# Altium footprint library SG__PCB_MiniSat.PcbLib: 12 footprints (part 1 of 2)
Each footprint in its own frame and in the unit in brackets; x right, y up, seen from the top. Pads: shape width x height; smd on the part's side, far side on the other; paste and mask are expansions set on the pad; w line width, h text height; cw(c..) or ccw(c..) is an arc to the next point about the centre after c.
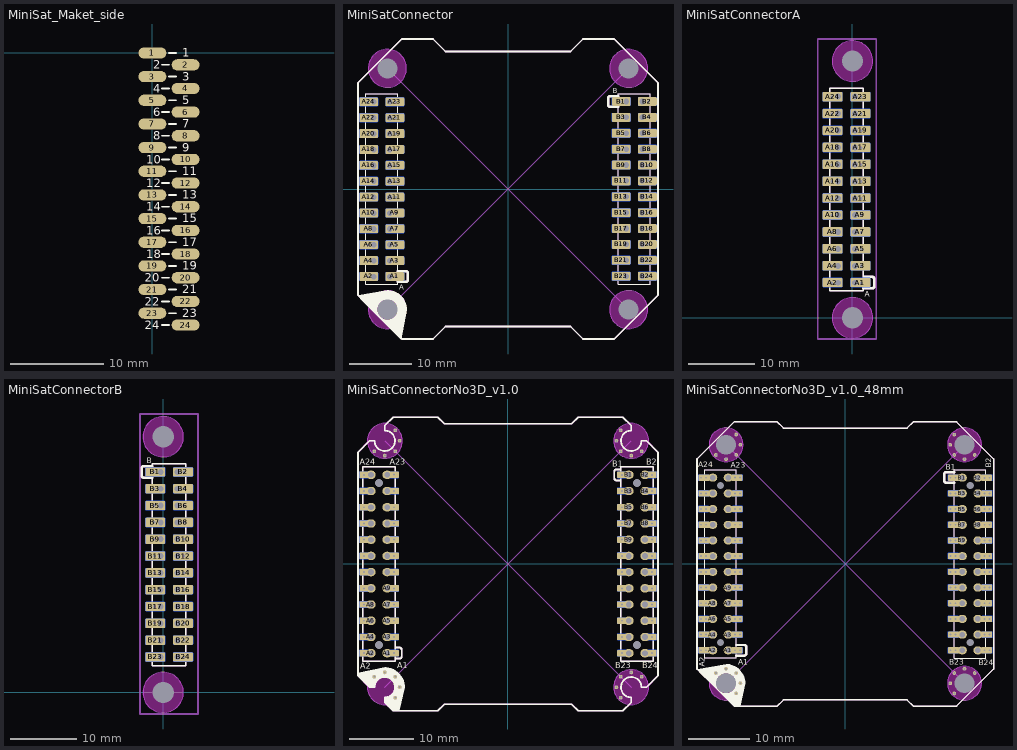
[diagram p0: the footprints below, top view; thin cyan lines are the x and y axes]

## MiniSat_Maket_side [mm]
pads (24):
  oval 3x1.2 smd: 1(0,0) 2(3.56,-1.27) 3(0,-2.54) 4(3.56,-3.81) 5(0,-5.08) 6(3.56,-6.35) 7(0,-7.62) 8(3.56,-8.89) 9(0,-10.16) 10(3.56,-11.43) 11(0,-12.7) 12(3.56,-13.97) 13(0,-15.24) 14(3.56,-16.51) 15(0,-17.78) 16(3.56,-19.05) 17(0,-20.32) 18(3.56,-21.59) 19(0,-22.86) 20(3.56,-24.13) 21(0,-25.4) 22(3.56,-26.67) 23(0,-27.94) 24(3.56,-29.21)
Top Overlay:
  lines w0.2: 1.013,-29.21 1.783,-29.21 ; 1.013,-26.67 1.783,-26.67 ; 1.013,-24.13 1.783,-24.13 ; 1.013,-21.59 1.783,-21.59 ; 1.013,-19.05 1.783,-19.05 ; 1.013,-16.51 1.783,-16.51 ; 1.013,-13.97 1.783,-13.97 ; 1.013,-11.43 1.783,-11.43 ; 1.013,-8.89 1.783,-8.89 ; 1.013,-6.35 1.783,-6.35 ; 1.013,-3.81 1.783,-3.81 ; 1.013,-1.27 1.783,-1.27 ; 1.777,-27.94 2.547,-27.94 ; 1.777,-25.4 2.547,-25.4 ; 1.777,-22.86 2.547,-22.86 ; 1.777,-20.32 2.547,-20.32 ; 1.777,-17.78 2.547,-17.78 ; 1.777,-15.24 2.547,-15.24 ; 1.777,-12.7 2.547,-12.7 ; 1.777,-10.16 2.547,-10.16 ; 1.777,-7.62 2.547,-7.62 ; 1.777,-5.08 2.547,-5.08 ; 1.777,-2.54 2.547,-2.54 ; 1.777,0 2.547,0
  text "24" at -0.82,-29.66 h0.9
  text "22" at -0.82,-27.12 h0.9
  text "20" at -0.82,-24.58 h0.9
  text "18" at -0.67,-22.04 h0.9
  text "16" at -0.67,-19.5 h0.9
  text "14" at -0.67,-16.96 h0.9
  text "12" at -0.67,-14.42 h0.9
  text "10" at -0.67,-11.88 h0.9
  text "8" at 0.08,-9.34 h0.9
  text "6" at 0.08,-6.8 h0.9
  text "4" at 0.08,-4.26 h0.9
  text "2" at 0.08,-1.72 h0.9
  text "23" at 3.18,-28.36 h0.9
  text "21" at 3.18,-25.82 h0.9
  text "19" at 3.18,-23.28 h0.9
  text "17" at 3.18,-20.74 h0.9
  text "15" at 3.18,-18.2 h0.9
  text "13" at 3.18,-15.66 h0.9
  text "11" at 3.18,-13.12 h0.9
  text "9" at 3.18,-10.58 h0.9
  text "7" at 3.18,-8.04 h0.9
  text "5" at 3.18,-5.5 h0.9
  text "3" at 3.18,-2.96 h0.9
  text "1" at 3.18,-0.42 h0.9

## MiniSatConnector [mm]
pads (196):
  round 1 hole 3.2 unplated mask-0.5: 0(-19.3,-19.3) 0(-19.3,19.3) 0(19.3,-19.3) 0(19.3,19.3)
  round 1.2 hole 0.9: A1(-18.93,-14.021) A2(-21.47,-14.021) A3(-18.93,-11.481) A4(-21.47,-11.481) A5(-18.93,-8.941) A6(-21.47,-8.941) A7(-18.93,-6.401) A8(-21.47,-6.401) A9(-18.93,-3.861) A10(-21.47,-3.861) A11(-18.93,-1.321) A12(-21.47,-1.321) A13(-18.93,1.219) A14(-21.47,1.219) A15(-18.93,3.759) A16(-21.47,3.759) A17(-18.93,6.299) A18(-21.47,6.299) A19(-18.93,8.839) A20(-21.47,8.839) A21(-18.93,11.405) A22(-21.47,11.405) A23(-18.93,13.945) A24(-21.47,13.945) B1(18.93,13.996) B2(21.47,13.996) B3(18.93,11.456) B4(21.47,11.456) B5(18.93,8.916) B6(21.47,8.916) B7(18.93,6.376) B8(21.47,6.376) B9(18.93,3.836) B10(21.47,3.836) B11(18.93,1.296) B12(21.47,1.296) B13(18.93,-1.244) B14(21.47,-1.244) B15(18.93,-3.784) B16(21.47,-3.784) B17(18.93,-6.324) B18(21.47,-6.324) B19(18.93,-8.864) B20(21.47,-8.864) B21(18.93,-11.43) B22(21.47,-11.43) B23(18.93,-13.97) B24(21.47,-13.97)
  rrect25% 3x1.4 smd: A1(-18.1,-13.995) A2(-22.3,-13.995) A3(-18.1,-11.455) A4(-22.3,-11.455) A5(-18.1,-8.915) A6(-22.3,-8.915) A7(-18.1,-6.375) A8(-22.3,-6.375) A9(-18.1,-3.835) A10(-22.3,-3.835) A11(-18.1,-1.295) A12(-22.3,-1.295) A13(-18.1,1.245) A14(-22.3,1.245) A15(-18.1,3.785) A16(-22.3,3.785) A17(-18.1,6.325) A18(-22.3,6.325) A19(-18.1,8.865) A20(-22.3,8.865) A21(-18.1,11.405) A22(-22.3,11.405) A23(-18.1,13.945) A24(-22.3,13.945) B1(18.1,13.996) B2(22.3,13.996) B3(18.1,11.456) B4(22.3,11.456) B5(18.1,8.916) B6(22.3,8.916) B7(18.1,6.376) B8(22.3,6.376) B9(18.1,3.836) B10(22.3,3.836) B11(18.1,1.296) B12(22.3,1.296) B13(18.1,-1.244) B14(22.3,-1.244) B15(18.1,-3.784) B16(22.3,-3.784) B17(18.1,-6.324) B18(22.3,-6.324) B19(18.1,-8.864) B20(22.3,-8.864) B21(18.1,-11.404) B22(22.3,-11.404) B23(18.1,-13.944) B24(22.3,-13.944)
  rrect25% 3x1.4 smd far side: A1(-18.1,-13.995) A2(-22.3,-13.995) A3(-18.1,-11.455) A4(-22.3,-11.455) A5(-18.1,-8.915) A6(-22.3,-8.915) A7(-18.1,-6.375) A8(-22.3,-6.375) A9(-18.1,-3.835) A10(-22.3,-3.835) A11(-18.1,-1.295) A12(-22.3,-1.295) A13(-18.1,1.245) A14(-22.3,1.245) A15(-18.1,3.785) A16(-22.3,3.785) A17(-18.1,6.325) A18(-22.3,6.325) A19(-18.1,8.865) A20(-22.3,8.865) A21(-18.1,11.405) A22(-22.3,11.405) A23(-18.1,13.945) A24(-22.3,13.945) B1(18.1,13.996) B2(22.3,13.996) B3(18.1,11.456) B4(22.3,11.456) B5(18.1,8.916) B6(22.3,8.916) B7(18.1,6.376) B8(22.3,6.376) B9(18.1,3.836) B10(22.3,3.836) B11(18.1,1.296) B12(22.3,1.296) B13(18.1,-1.244) B14(22.3,-1.244) B15(18.1,-3.784) B16(22.3,-3.784) B17(18.1,-6.324) B18(22.3,-6.324) B19(18.1,-8.864) B20(22.3,-8.864) B21(18.1,-11.404) B22(22.3,-11.404) B23(18.1,-13.944) B24(22.3,-13.944)
  round 0.8 hole 0.4: A1(-17.96,-14.046) A2(-22.44,-14.046) A3(-17.96,-11.506) A4(-22.44,-11.506) A5(-17.96,-8.966) A6(-22.44,-8.966) A7(-17.96,-6.426) A8(-22.44,-6.426) A9(-17.96,-3.886) A10(-22.44,-3.886) A11(-17.96,-1.346) A12(-22.44,-1.346) A13(-17.96,1.194) A14(-22.44,1.194) A15(-17.96,3.734) A16(-22.44,3.734) A17(-17.96,6.274) A18(-22.44,6.274) A19(-17.96,8.814) A20(-22.44,8.814) A21(-17.96,11.379) A22(-22.44,11.379) A23(-17.96,13.919) A24(-22.44,13.919) B1(17.96,13.996) B2(22.44,13.996) B3(17.96,11.456) B4(22.44,11.456) B5(17.96,8.916) B6(22.44,8.916) B7(17.96,6.376) B8(22.44,6.376) B9(17.96,3.836) B10(22.44,3.836) B11(17.96,1.296) B12(22.44,1.296) B13(17.96,-1.244) B14(22.44,-1.244) B15(17.96,-3.784) B16(22.44,-3.784) B17(17.96,-6.324) B18(22.44,-6.324) B19(17.96,-8.864) B20(22.44,-8.864) B21(17.96,-11.43) B22(22.44,-11.43) B23(17.96,-13.97) B24(22.44,-13.97)
Top Overlay:
  region: -17.066,-24 -16.2,-19.3 -16.2,-19.097 -16.253,-18.694 -16.358,-18.301 -16.514,-17.926 -16.717,-17.574 -16.964,-17.252 -17.252,-16.964 -17.574,-16.717 -17.926,-16.514 -18.301,-16.358 -18.694,-16.253 -19.097,-16.2 -19.3,-16.2 -24,-17 -23.567,-17.6 -19.3,-17.7 -19.143,-17.708 -18.836,-17.769 -18.546,-17.889 -18.285,-18.063 -18.063,-18.285 -17.889,-18.546 -17.769,-18.836 -17.708,-19.143 -17.7,-19.3 -17.7,-23.366
  region: -17.7,-19.3 -17.708,-19.457 -17.769,-19.764 -17.889,-20.054 -18.063,-20.315 -18.285,-20.537 -18.546,-20.711 -18.836,-20.831 -19.143,-20.892 -19.3,-20.9 -19.457,-20.892 -19.764,-20.831 -20.054,-20.711 -20.315,-20.537 -20.537,-20.315 -20.711,-20.054 -20.831,-19.765 -20.892,-19.457 -20.9,-19.3 -20.892,-19.143 -20.831,-18.836 -20.711,-18.546 -20.537,-18.285 -20.315,-18.063 -20.054,-17.889 -19.764,-17.769 -19.457,-17.708 -19.3,-17.7 -19.3,-17.6 -23.567,-17.6 -17.167,-24 -17.066,-24 -17.066,-19.3
  lines w0.2: -22.74,-15.235 -17.66,-15.235 -17.66,15.245 -22.74,15.245 -22.74,-15.235 ; 17.66,-15.244 22.74,-15.244 22.74,15.236 17.66,15.236 17.66,-15.244
  lines w0.254: -24,-17 -17,-24 -12,-24 -10,-22 10,-22 12,-24 17,-24 24,-17 24,17 17,24 12,24 10,22 -10,22 -12,24 -17,24 -24,17 -24,-17
  lines w0.381: -17.653,-14.859 -16.358,-14.859 ccw(c-16.358,-14.529) -16.027,-14.529 -16.027,-13.462 ccw(c-16.358,-13.462) -16.358,-13.132 -17.628,-13.132 ; 17.628,13.132 16.358,13.132 cw(c16.358,13.462) 16.027,13.462 16.027,14.529 cw(c16.358,14.529) 16.358,14.859 17.653,14.859
  text "A" at -17.43,-16.101 h0.81
  text "B" at 16.789,15.291 h0.81
Bottom Overlay:
  region: -17.7,-19.3 -17.708,-19.457 -17.769,-19.764 -17.889,-20.054 -18.063,-20.315 -18.285,-20.537 -18.546,-20.711 -18.836,-20.831 -19.143,-20.892 -19.3,-20.9 -19.457,-20.892 -19.764,-20.831 -20.054,-20.711 -20.315,-20.537 -20.537,-20.315 -20.711,-20.054 -20.831,-19.765 -20.892,-19.457 -20.9,-19.3 -20.892,-19.143 -20.831,-18.836 -20.711,-18.546 -20.537,-18.285 -20.315,-18.063 -20.054,-17.889 -19.764,-17.769 -19.457,-17.708 -19.3,-17.7 -19.3,-17.6 -23.567,-17.6 -17.167,-24 -17.066,-24 -17.066,-19.3
  region: -17.066,-24 -16.2,-19.3 -16.2,-19.097 -16.253,-18.694 -16.358,-18.301 -16.514,-17.926 -16.717,-17.574 -16.964,-17.252 -17.252,-16.964 -17.574,-16.717 -17.926,-16.514 -18.301,-16.358 -18.694,-16.253 -19.097,-16.2 -19.3,-16.2 -24,-17 -23.567,-17.6 -19.3,-17.7 -19.143,-17.708 -18.836,-17.769 -18.546,-17.889 -18.285,-18.063 -18.063,-18.285 -17.889,-18.546 -17.769,-18.836 -17.708,-19.143 -17.7,-19.3 -17.7,-23.366
  lines w0.2: -22.74,-15.235 -17.66,-15.235 -17.66,15.245 -22.74,15.245 -22.74,-15.235 ; 17.66,-15.244 22.74,-15.244 22.74,15.236 17.66,15.236 17.66,-15.244
  lines w0.254: -24,-17 -17,-24 -12,-24 -10,-22 10,-22 12,-24 17,-24 24,-17 24,17 17,24 12,24 10,22 -10,22 -12,24 -17,24 -24,17 -24,-17
  lines w0.381: -17.653,-14.863 -16.358,-14.863 ccw(c-16.358,-14.533) -16.027,-14.533 -16.027,-13.466 ccw(c-16.358,-13.466) -16.358,-13.136 -17.628,-13.136 ; -17.653,-14.859 -16.358,-14.859 ccw(c-16.358,-14.529) -16.027,-14.529 -16.027,-13.462 ccw(c-16.358,-13.462) -16.358,-13.132 -17.628,-13.132 ; 17.628,13.132 16.358,13.132 cw(c16.358,13.462) 16.027,13.462 16.027,14.529 cw(c16.358,14.529) 16.358,14.859 17.653,14.859
  text "A" at -17.448,-16.101 h0.81
  text "B" at 17.295,15.25 h0.81
Top Solder:
  drawing of 3 lines, arcs and shapes, not listed
Bottom Solder:
  drawing of 3 lines, arcs and shapes, not listed
Keep-Out Layer:
  drawing of 4 lines, arcs and shapes, not listed
Top Assembly:
  lines w0.2: -22.74,-15.24 -22.74,15.24 -17.66,15.24 -17.66,-15.24 -22.74,-15.24 ; 17.66,-15.244 22.74,-15.244 22.74,15.236 17.66,15.236 17.66,-15.244
  lines w0.381: -17.653,-14.859 -16.358,-14.859 ccw(c-16.358,-14.529) -16.027,-14.529 -16.027,-13.462 ccw(c-16.358,-13.462) -16.358,-13.132 -17.628,-13.132 ; 17.628,13.132 16.358,13.132 cw(c16.358,13.462) 16.027,13.462 16.027,14.529 cw(c16.358,14.529) 16.358,14.859 17.653,14.859
  text "B" at 16.789,15.291 h0.81
  text "A" at -17.43,-16.101 h0.81
Bottom Assembly:
  lines w0.2: -22.74,-15.235 -17.66,-15.235 -17.66,15.245 -22.74,15.245 -22.74,-15.235 ; 17.66,-15.244 22.74,-15.244 22.74,15.236 17.66,15.236 17.66,-15.244
  lines w0.381: -17.653,-14.859 -16.358,-14.859 ccw(c-16.358,-14.529) -16.027,-14.529 -16.027,-13.462 ccw(c-16.358,-13.462) -16.358,-13.132 -17.628,-13.132 ; 17.628,13.132 16.358,13.132 cw(c16.358,13.462) 16.027,13.462 16.027,14.529 cw(c16.358,14.529) 16.358,14.859 17.653,14.859
  text "A" at -17.448,-16.101 h0.81
  text "B" at 17.295,15.25 h0.81
Board Shape:
  lines w0.254: -24,-17 -24,17 -17,24 -12,24 -10,22 10,22 12,24 17,24 24,17 24,-17 17,-24 12,-24 10,-22 -10,-22 -12,-24 -17,-24 -24,-17
Dimensions:
  circle w0.152: c19.3,-19.3 r3.05
  circle w0.152: c19.3,19.3 r3.05
  circle w0.152: c-19.3,19.3 r3.05
  circle w0.152: c-19.3,-19.3 r3.05
  lines w0.152: -19.3,-19.3 19.3,19.3 ; -19.3,19.3 19.3,-19.3
3D body "User Library-24-pin SMT header.STEP": height -0.69, standoff -11, extent 16.399,-15.189 24.401,15.291
3D body "User Library-24-pin SMT header.STEP": height -0.69, standoff -11, extent -24.001,-15.24 -15.999,15.24
3D body "c-1-969973-2-e-3d.stp": height 6.2, standoff 0, extent -23.825,-15.14 -16.175,15.14
3D body "c-1-969973-2-e-3d.stp": height 6.2, standoff 0, extent 16.175,-15.14 23.825,15.14

## MiniSatConnectorA [mm]
pads (98):
  round 1 hole 3.2 unplated mask-0.5: 0(0,0) 0(0,38.6)
  round 1.2 hole 0.9: A1(0.37,5.279) A2(-2.17,5.279) A3(0.37,7.819) A4(-2.17,7.819) A5(0.37,10.359) A6(-2.17,10.359) A7(0.37,12.899) A8(-2.17,12.899) A9(0.37,15.439) A10(-2.17,15.439) A11(0.37,17.979) A12(-2.17,17.979) A13(0.37,20.519) A14(-2.17,20.519) A15(0.37,23.059) A16(-2.17,23.059) A17(0.37,25.599) A18(-2.17,25.599) A19(0.37,28.139) A20(-2.17,28.139) A21(0.37,30.705) A22(-2.17,30.705) A23(0.37,33.245) A24(-2.17,33.245)
  rrect25% 3x1.4 smd: A1(1.2,5.305) A2(-3,5.305) A3(1.2,7.845) A4(-3,7.845) A5(1.2,10.385) A6(-3,10.385) A7(1.2,12.925) A8(-3,12.925) A9(1.2,15.465) A10(-3,15.465) A11(1.2,18.005) A12(-3,18.005) A13(1.2,20.545) A14(-3,20.545) A15(1.2,23.085) A16(-3,23.085) A17(1.2,25.625) A18(-3,25.625) A19(1.2,28.165) A20(-3,28.165) A21(1.2,30.705) A22(-3,30.705) A23(1.2,33.245) A24(-3,33.245)
  rrect25% 3x1.4 smd far side: A1(1.2,5.305) A2(-3,5.305) A3(1.2,7.845) A4(-3,7.845) A5(1.2,10.385) A6(-3,10.385) A7(1.2,12.925) A8(-3,12.925) A9(1.2,15.465) A10(-3,15.465) A11(1.2,18.005) A12(-3,18.005) A13(1.2,20.545) A14(-3,20.545) A15(1.2,23.085) A16(-3,23.085) A17(1.2,25.625) A18(-3,25.625) A19(1.2,28.165) A20(-3,28.165) A21(1.2,30.705) A22(-3,30.705) A23(1.2,33.245) A24(-3,33.245)
  round 0.8 hole 0.4: A1(1.34,5.254) A2(-3.14,5.254) A3(1.34,7.794) A4(-3.14,7.794) A5(1.34,10.334) A6(-3.14,10.334) A7(1.34,12.874) A8(-3.14,12.874) A9(1.34,15.414) A10(-3.14,15.414) A11(1.34,17.954) A12(-3.14,17.954) A13(1.34,20.494) A14(-3.14,20.494) A15(1.34,23.034) A16(-3.14,23.034) A17(1.34,25.574) A18(-3.14,25.574) A19(1.34,28.114) A20(-3.14,28.114) A21(1.34,30.679) A22(-3.14,30.679) A23(1.34,33.219) A24(-3.14,33.219)
Top Overlay:
  lines w0.2: -3.44,4.065 1.64,4.065 1.64,34.545 -3.44,34.545 -3.44,4.065
  lines w0.381: 1.647,4.441 2.942,4.441 ccw(c2.942,4.771) 3.273,4.771 3.273,5.838 ccw(c2.942,5.838) 2.942,6.168 1.672,6.168
  text "A" at 1.87,3.199 h0.81
Bottom Overlay:
  lines w0.2: -3.44,4.065 1.64,4.065 1.64,34.545 -3.44,34.545 -3.44,4.065
  lines w0.381: 1.647,4.437 2.942,4.437 ccw(c2.942,4.767) 3.273,4.767 3.273,5.834 ccw(c2.942,5.834) 2.942,6.164 1.672,6.164 ; 1.647,4.441 2.942,4.441 ccw(c2.942,4.771) 3.273,4.771 3.273,5.838 ccw(c2.942,5.838) 2.942,6.168 1.672,6.168
  text "A" at 1.852,3.199 h0.81
Top Solder:
  region: 0,-3.05 -0.2,-3.05 -0.596,-2.998 -0.983,-2.894 -1.352,-2.741 -1.698,-2.541 -2.015,-2.298 -2.298,-2.015 -2.541,-1.698 -2.741,-1.352 -2.894,-0.982 -2.998,-0.596 -3.05,-0.2 -3.05,0 -3.05,0.2 -2.998,0.596 -2.894,0.982 -2.741,1.352 -2.541,1.698 -2.298,2.015 -2.015,2.298 -1.698,2.541 -1.352,2.741 -0.983,2.894 -0.596,2.998 -0.2,3.05 0,3.05 0.2,3.05 0.596,2.998 0.982,2.894 1.352,2.741 1.698,2.541 2.015,2.298 2.298,2.015 2.541,1.698 2.741,1.352 2.894,0.982 2.998,0.596 3.05,0.2 3.05,0 3.05,-0.2 2.998,-0.596 2.894,-0.982 2.741,-1.352 2.541,-1.698 2.298,-2.015 2.015,-2.298 1.698,-2.541 1.352,-2.741 0.982,-2.894 0.596,-2.998 0.2,-3.05
  region: 0,35.55 -0.2,35.55 -0.596,35.602 -0.983,35.706 -1.352,35.859 -1.698,36.059 -2.015,36.302 -2.298,36.585 -2.541,36.902 -2.741,37.248 -2.894,37.618 -2.998,38.004 -3.05,38.4 -3.05,38.6 -3.05,38.8 -2.998,39.196 -2.894,39.582 -2.741,39.952 -2.541,40.298 -2.298,40.615 -2.015,40.898 -1.698,41.141 -1.352,41.341 -0.983,41.494 -0.596,41.598 -0.2,41.65 0,41.65 0.2,41.65 0.596,41.598 0.982,41.494 1.352,41.341 1.698,41.141 2.015,40.898 2.298,40.615 2.541,40.298 2.741,39.952 2.894,39.582 2.998,39.196 3.05,38.8 3.05,38.6 3.05,38.4 2.998,38.004 2.894,37.618 2.741,37.248 2.541,36.902 2.298,36.585 2.015,36.302 1.698,36.059 1.352,35.859 0.982,35.706 0.596,35.602 0.2,35.55
Bottom Solder:
  region: 0,-3.05 -0.2,-3.05 -0.596,-2.998 -0.983,-2.894 -1.352,-2.741 -1.698,-2.541 -2.015,-2.298 -2.298,-2.015 -2.541,-1.698 -2.741,-1.352 -2.894,-0.982 -2.998,-0.596 -3.05,-0.2 -3.05,0 -3.05,0.2 -2.998,0.596 -2.894,0.982 -2.741,1.352 -2.541,1.698 -2.298,2.015 -2.015,2.298 -1.698,2.541 -1.352,2.741 -0.983,2.894 -0.596,2.998 -0.2,3.05 0,3.05 0.2,3.05 0.596,2.998 0.982,2.894 1.352,2.741 1.698,2.541 2.015,2.298 2.298,2.015 2.541,1.698 2.741,1.352 2.894,0.982 2.998,0.596 3.05,0.2 3.05,0 3.05,-0.2 2.998,-0.596 2.894,-0.982 2.741,-1.352 2.541,-1.698 2.298,-2.015 2.015,-2.298 1.698,-2.541 1.352,-2.741 0.982,-2.894 0.596,-2.998 0.2,-3.05
  region: 0,35.55 -0.2,35.55 -0.596,35.602 -0.983,35.706 -1.352,35.859 -1.698,36.059 -2.015,36.302 -2.298,36.585 -2.541,36.902 -2.741,37.248 -2.894,37.618 -2.998,38.004 -3.05,38.4 -3.05,38.6 -3.05,38.8 -2.998,39.196 -2.894,39.582 -2.741,39.952 -2.541,40.298 -2.298,40.615 -2.015,40.898 -1.698,41.141 -1.352,41.341 -0.983,41.494 -0.596,41.598 -0.2,41.65 0,41.65 0.2,41.65 0.596,41.598 0.982,41.494 1.352,41.341 1.698,41.141 2.015,40.898 2.298,40.615 2.541,40.298 2.741,39.952 2.894,39.582 2.998,39.196 3.05,38.8 3.05,38.6 3.05,38.4 2.998,38.004 2.894,37.618 2.741,37.248 2.541,36.902 2.298,36.585 2.015,36.302 1.698,36.059 1.352,35.859 0.982,35.706 0.596,35.602 0.2,35.55
Keep-Out Layer:
  region: -3.05,38.6 -3.05,38.4 -2.998,38.004 -2.894,37.617 -2.741,37.248 -2.541,36.902 -2.298,36.585 -2.015,36.302 -1.698,36.059 -1.352,35.859 -0.982,35.706 -0.596,35.602 -0.2,35.55 0,35.55 0.2,35.55 0.596,35.602 0.983,35.706 1.352,35.859 1.698,36.059 2.015,36.302 2.298,36.585 2.541,36.902 2.741,37.248 2.894,37.617 2.998,38.004 3.05,38.4 3.05,38.6 3.05,38.8 2.998,39.196 2.894,39.582 2.741,39.952 2.541,40.298 2.298,40.615 2.015,40.898 1.698,41.141 1.352,41.341 0.983,41.494 0.596,41.598 0.2,41.65 0,41.65 -0.2,41.65 -0.596,41.598 -0.982,41.494 -1.352,41.341 -1.698,41.141 -2.015,40.898 -2.298,40.615 -2.541,40.298 -2.741,39.952 -2.894,39.582 -2.998,39.196 -3.05,38.8
  region: -3.05,0 -3.05,-0.2 -2.998,-0.596 -2.894,-0.982 -2.741,-1.352 -2.541,-1.698 -2.298,-2.015 -2.015,-2.298 -1.698,-2.541 -1.352,-2.741 -0.982,-2.894 -0.596,-2.998 -0.2,-3.05 0,-3.05 0.2,-3.05 0.596,-2.998 0.983,-2.894 1.352,-2.741 1.698,-2.541 2.015,-2.298 2.298,-2.015 2.541,-1.698 2.741,-1.352 2.894,-0.982 2.998,-0.596 3.05,-0.2 3.05,0 3.05,0.2 2.998,0.596 2.894,0.982 2.741,1.352 2.541,1.698 2.298,2.015 2.015,2.298 1.698,2.541 1.352,2.741 0.983,2.894 0.596,2.998 0.2,3.05 0,3.05 -0.2,3.05 -0.596,2.998 -0.982,2.894 -1.352,2.741 -1.698,2.541 -2.015,2.298 -2.298,2.015 -2.541,1.698 -2.741,1.352 -2.894,0.982 -2.998,0.596 -3.05,0.2
Top Assembly:
  lines w0.2: -3.44,4.06 -3.44,34.54 1.64,34.54 1.64,4.06 -3.44,4.06
  lines w0.381: 1.647,4.441 2.942,4.441 ccw(c2.942,4.771) 3.273,4.771 3.273,5.838 ccw(c2.942,5.838) 2.942,6.168 1.672,6.168
  text "A" at 1.87,3.199 h0.81
Bottom Assembly:
  lines w0.2: -3.44,4.065 1.64,4.065 1.64,34.545 -3.44,34.545 -3.44,4.065
  lines w0.381: 1.647,4.441 2.942,4.441 ccw(c2.942,4.771) 3.273,4.771 3.273,5.838 ccw(c2.942,5.838) 2.942,6.168 1.672,6.168
  text "A" at 1.852,3.199 h0.81
Top Courtyard:
  lines w0.254: -5.202,-3.17 3.561,-3.17 3.561,41.915 -5.202,41.915 -5.202,-3.17
Bottom Courtyard:
  lines w0.254: -5.207,-3.175 3.556,-3.175 3.556,41.91 -5.207,41.91 -5.207,-3.175
Dimensions:
  circle w0.152: c0,38.6 r3.05
  circle w0.152: c0,0 r3.05
3D body "User Library-24-pin SMT header.STEP": height -0.69, standoff -11, extent -4.701,4.06 3.301,34.54
3D body "c-1-969973-2-e-3d.stp": height 6.2, standoff 0, extent -4.525,4.16 3.125,34.44

## MiniSatConnectorB [mm]
pads (98):
  round 1 hole 3.2 unplated mask-0.5: 0(0,0) 0(0,38.6)
  round 0.8 hole 0.4: B1(-1.34,33.296) B2(3.14,33.296) B3(-1.34,30.756) B4(3.14,30.756) B5(-1.34,28.216) B6(3.14,28.216) B7(-1.34,25.676) B8(3.14,25.676) B9(-1.34,23.136) B10(3.14,23.136) B11(-1.34,20.596) B12(3.14,20.596) B13(-1.34,18.056) B14(3.14,18.056) B15(-1.34,15.516) B16(3.14,15.516) B17(-1.34,12.976) B18(3.14,12.976) B19(-1.34,10.436) B20(3.14,10.436) B21(-1.34,7.87) B22(3.14,7.87) B23(-1.34,5.33) B24(3.14,5.33)
  rrect25% 3x1.4 smd: B1(-1.2,33.296) B2(3,33.296) B3(-1.2,30.756) B4(3,30.756) B5(-1.2,28.216) B6(3,28.216) B7(-1.2,25.676) B8(3,25.676) B9(-1.2,23.136) B10(3,23.136) B11(-1.2,20.596) B12(3,20.596) B13(-1.2,18.056) B14(3,18.056) B15(-1.2,15.516) B16(3,15.516) B17(-1.2,12.976) B18(3,12.976) B19(-1.2,10.436) B20(3,10.436) B21(-1.2,7.896) B22(3,7.896) B23(-1.2,5.356) B24(3,5.356)
  rrect25% 3x1.4 smd far side: B1(-1.2,33.296) B2(3,33.296) B3(-1.2,30.756) B4(3,30.756) B5(-1.2,28.216) B6(3,28.216) B7(-1.2,25.676) B8(3,25.676) B9(-1.2,23.136) B10(3,23.136) B11(-1.2,20.596) B12(3,20.596) B13(-1.2,18.056) B14(3,18.056) B15(-1.2,15.516) B16(3,15.516) B17(-1.2,12.976) B18(3,12.976) B19(-1.2,10.436) B20(3,10.436) B21(-1.2,7.896) B22(3,7.896) B23(-1.2,5.356) B24(3,5.356)
  round 1.2 hole 0.9: B1(-0.37,33.296) B2(2.17,33.296) B3(-0.37,30.756) B4(2.17,30.756) B5(-0.37,28.216) B6(2.17,28.216) B7(-0.37,25.676) B8(2.17,25.676) B9(-0.37,23.136) B10(2.17,23.136) B11(-0.37,20.596) B12(2.17,20.596) B13(-0.37,18.056) B14(2.17,18.056) B15(-0.37,15.516) B16(2.17,15.516) B17(-0.37,12.976) B18(2.17,12.976) B19(-0.37,10.436) B20(2.17,10.436) B21(-0.37,7.87) B22(2.17,7.87) B23(-0.37,5.33) B24(2.17,5.33)
Top Overlay:
  lines w0.2: -1.64,4.056 -1.64,34.536 3.44,34.536 3.44,4.056 -1.64,4.056
  lines w0.381: -1.672,32.432 -2.942,32.432 cw(c-2.942,32.762) -3.273,32.762 -3.273,33.829 cw(c-2.942,33.829) -2.942,34.159 -1.647,34.159
  text "B" at -2.511,34.591 h0.81
Bottom Overlay:
  lines w0.2: -1.64,4.056 -1.64,34.536 3.44,34.536 3.44,4.056 -1.64,4.056
  lines w0.381: -1.672,32.432 -2.942,32.432 cw(c-2.942,32.762) -3.273,32.762 -3.273,33.829 cw(c-2.942,33.829) -2.942,34.159 -1.647,34.159
  text "B" at -2.005,34.55 h0.81
Top Solder:
  region: 0,-3.05 -0.2,-3.05 -0.596,-2.998 -0.983,-2.894 -1.352,-2.741 -1.698,-2.541 -2.015,-2.298 -2.298,-2.015 -2.541,-1.698 -2.741,-1.352 -2.894,-0.982 -2.998,-0.596 -3.05,-0.2 -3.05,0 -3.05,0.2 -2.998,0.596 -2.894,0.983 -2.741,1.352 -2.541,1.698 -2.298,2.015 -2.015,2.298 -1.698,2.541 -1.352,2.741 -0.983,2.894 -0.596,2.998 -0.2,3.05 0,3.05 0.2,3.05 0.596,2.998 0.982,2.894 1.352,2.741 1.698,2.541 2.015,2.298 2.298,2.015 2.541,1.698 2.741,1.352 2.894,0.983 2.998,0.596 3.05,0.2 3.05,0 3.05,-0.2 2.998,-0.596 2.894,-0.982 2.741,-1.352 2.541,-1.698 2.298,-2.015 2.015,-2.298 1.698,-2.541 1.352,-2.741 0.982,-2.894 0.596,-2.998 0.2,-3.05
  region: 0,35.55 -0.2,35.55 -0.596,35.602 -0.983,35.706 -1.352,35.859 -1.698,36.059 -2.015,36.302 -2.298,36.585 -2.541,36.902 -2.741,37.248 -2.894,37.618 -2.998,38.004 -3.05,38.4 -3.05,38.6 -3.05,38.8 -2.998,39.196 -2.894,39.583 -2.741,39.952 -2.541,40.298 -2.298,40.615 -2.015,40.898 -1.698,41.141 -1.352,41.341 -0.983,41.494 -0.596,41.598 -0.2,41.65 0,41.65 0.2,41.65 0.596,41.598 0.982,41.494 1.352,41.341 1.698,41.141 2.015,40.898 2.298,40.615 2.541,40.298 2.741,39.952 2.894,39.583 2.998,39.196 3.05,38.8 3.05,38.6 3.05,38.4 2.998,38.004 2.894,37.618 2.741,37.248 2.541,36.902 2.298,36.585 2.015,36.302 1.698,36.059 1.352,35.859 0.982,35.706 0.596,35.602 0.2,35.55
Bottom Solder:
  region: 0,-3.05 -0.2,-3.05 -0.596,-2.998 -0.983,-2.894 -1.352,-2.741 -1.698,-2.541 -2.015,-2.298 -2.298,-2.015 -2.541,-1.698 -2.741,-1.352 -2.894,-0.982 -2.998,-0.596 -3.05,-0.2 -3.05,0 -3.05,0.2 -2.998,0.596 -2.894,0.983 -2.741,1.352 -2.541,1.698 -2.298,2.015 -2.015,2.298 -1.698,2.541 -1.352,2.741 -0.983,2.894 -0.596,2.998 -0.2,3.05 0,3.05 0.2,3.05 0.596,2.998 0.982,2.894 1.352,2.741 1.698,2.541 2.015,2.298 2.298,2.015 2.541,1.698 2.741,1.352 2.894,0.983 2.998,0.596 3.05,0.2 3.05,0 3.05,-0.2 2.998,-0.596 2.894,-0.982 2.741,-1.352 2.541,-1.698 2.298,-2.015 2.015,-2.298 1.698,-2.541 1.352,-2.741 0.982,-2.894 0.596,-2.998 0.2,-3.05
  region: 0,35.55 -0.2,35.55 -0.596,35.602 -0.983,35.706 -1.352,35.859 -1.698,36.059 -2.015,36.302 -2.298,36.585 -2.541,36.902 -2.741,37.248 -2.894,37.618 -2.998,38.004 -3.05,38.4 -3.05,38.6 -3.05,38.8 -2.998,39.196 -2.894,39.583 -2.741,39.952 -2.541,40.298 -2.298,40.615 -2.015,40.898 -1.698,41.141 -1.352,41.341 -0.983,41.494 -0.596,41.598 -0.2,41.65 0,41.65 0.2,41.65 0.596,41.598 0.982,41.494 1.352,41.341 1.698,41.141 2.015,40.898 2.298,40.615 2.541,40.298 2.741,39.952 2.894,39.583 2.998,39.196 3.05,38.8 3.05,38.6 3.05,38.4 2.998,38.004 2.894,37.618 2.741,37.248 2.541,36.902 2.298,36.585 2.015,36.302 1.698,36.059 1.352,35.859 0.982,35.706 0.596,35.602 0.2,35.55
Keep-Out Layer:
  region: -3.05,0 -3.05,-0.2 -2.998,-0.596 -2.894,-0.982 -2.741,-1.352 -2.541,-1.698 -2.298,-2.015 -2.015,-2.298 -1.698,-2.541 -1.352,-2.741 -0.983,-2.894 -0.596,-2.998 -0.2,-3.05 0,-3.05 0.2,-3.05 0.596,-2.998 0.982,-2.894 1.352,-2.741 1.698,-2.541 2.015,-2.298 2.298,-2.015 2.541,-1.698 2.741,-1.352 2.894,-0.982 2.998,-0.596 3.05,-0.2 3.05,0 3.05,0.2 2.998,0.596 2.894,0.982 2.741,1.352 2.541,1.698 2.298,2.015 2.015,2.298 1.698,2.541 1.352,2.741 0.982,2.894 0.596,2.998 0.2,3.05 0,3.05 -0.2,3.05 -0.596,2.998 -0.983,2.894 -1.352,2.741 -1.698,2.541 -2.015,2.298 -2.298,2.015 -2.541,1.698 -2.741,1.352 -2.894,0.982 -2.998,0.596 -3.05,0.2
  region: -3.05,38.6 -3.05,38.4 -2.998,38.004 -2.894,37.618 -2.741,37.248 -2.541,36.902 -2.298,36.585 -2.015,36.302 -1.698,36.059 -1.352,35.859 -0.982,35.706 -0.596,35.602 -0.2,35.55 0,35.55 0.2,35.55 0.596,35.602 0.982,35.706 1.352,35.859 1.698,36.059 2.015,36.302 2.298,36.585 2.541,36.902 2.741,37.248 2.894,37.618 2.998,38.004 3.05,38.4 3.05,38.6 3.05,38.8 2.998,39.196 2.894,39.582 2.741,39.952 2.541,40.298 2.298,40.615 2.015,40.898 1.698,41.141 1.352,41.341 0.982,41.494 0.596,41.598 0.2,41.65 0,41.65 -0.2,41.65 -0.596,41.598 -0.982,41.494 -1.352,41.341 -1.698,41.141 -2.015,40.898 -2.298,40.615 -2.541,40.298 -2.741,39.952 -2.894,39.582 -2.998,39.196 -3.05,38.8
Top Assembly:
  lines w0.2: -1.64,4.056 -1.64,34.536 3.44,34.536 3.44,4.056 -1.64,4.056
  lines w0.381: -1.672,32.432 -2.942,32.432 cw(c-2.942,32.762) -3.273,32.762 -3.273,33.829 cw(c-2.942,33.829) -2.942,34.159 -1.647,34.159
  text "B" at -2.511,34.591 h0.81
Bottom Assembly:
  lines w0.2: -1.64,4.056 -1.64,34.536 3.44,34.536 3.44,4.056 -1.64,4.056
  lines w0.381: -1.672,32.432 -2.942,32.432 cw(c-2.942,32.762) -3.273,32.762 -3.273,33.829 cw(c-2.942,33.829) -2.942,34.159 -1.647,34.159
  text "B" at -2.005,34.55 h0.81
Top Courtyard:
  lines w0.254: -3.5,-3.25 -3.5,42.037 5.25,42.037 5.25,-3.25 -3.5,-3.25
Bottom Courtyard:
  lines w0.254: -3.5,-3.25 5.25,-3.25 5.25,42.037 -3.5,42.037 -3.5,-3.25
Dimensions:
  circle w0.152: c0,38.6 r3.05
  circle w0.152: c0,0 r3.05
3D body "User Library-24-pin SMT header.STEP": height -0.69, standoff -11, extent -2.901,4.111 5.101,34.591
3D body "c-1-969973-2-e-3d.stp": height 6.2, standoff 0, extent -3.125,4.16 4.525,34.44

## MiniSatConnectorNo3D_v1.0 [mm]
pads (216):
  round 0.6 hole 0.3 mask+0.102: 0(-20.947,-17.657) 0(-19.303,-16.973) 0(-17.657,-17.653) 0(-17.653,-20.943) 0(-16.973,-19.297)
  round 0.6 hole 0.3: 0(-20.943,17.653) 0(-19.297,16.973) 0(-17.657,20.947) 0(-17.653,17.657) 0(-16.973,19.303) 0(16.973,19.297) 0(16.973,-19.303) 0(17.653,20.943) 0(17.653,-17.657) 0(17.657,17.653) 0(17.657,-20.947) 0(19.297,-16.973) 0(19.303,16.973) 0(20.943,-17.653) 0(20.947,17.657) A1(-17.85,-13.97) A2(-22.55,-13.97) A3(-17.85,-11.43) A4(-22.55,-11.43) A5(-17.85,-8.89) A6(-22.55,-8.89) A7(-17.85,-6.35) A8(-22.55,-6.35) A9(-17.85,-3.81) A10(-22.55,-3.81) A11(-17.85,-1.27) A12(-22.55,-1.27) A13(-17.85,1.27) A14(-22.55,1.27) A15(-17.85,3.81) A16(-22.55,3.81) A17(-17.85,6.35) A18(-22.55,6.35) A19(-17.85,8.89) A20(-22.55,8.89) A21(-17.85,11.43) A22(-22.55,11.43) A23(-17.85,14) A24(-22.55,13.97) B1(17.85,13.956) B2(22.55,13.947) B3(17.85,11.43) B4(22.55,11.43) B5(17.85,8.89) B6(22.55,8.89) B7(17.85,6.35) B8(22.55,6.35) B9(17.85,3.81) B10(22.55,3.81) B11(17.85,1.27) B12(22.55,1.27) B13(17.85,-1.27) B14(22.55,-1.27) B15(17.85,-3.81) B16(22.55,-3.81) B17(17.85,-6.35) B18(22.55,-6.35) B19(17.85,-8.89) B20(22.55,-8.89) B21(17.85,-11.43) B22(22.55,-11.43) B23(17.85,-13.97) B24(22.55,-13.97)
  round 0 hole 1.2 unplated: 2(-20.2,12.7) 2(-20.2,-12.7) 2(20.2,12.7) 2(20.2,-12.7)
  oval 1.5x1.3 hole 0.9: A1(-18.93,-13.97) A2(-21.47,-13.97) A3(-18.93,-11.43) A4(-21.47,-11.43) A5(-18.93,-8.89) A6(-21.47,-8.89) A7(-18.93,-6.35) A8(-21.47,-6.35) A9(-18.93,-3.81) A10(-21.47,-3.81) A11(-18.93,-1.27) A12(-21.47,-1.27) A13(-18.93,1.27) A14(-21.47,1.27) A15(-18.93,3.81) A16(-21.47,3.81) A17(-18.93,6.35) A18(-21.47,6.35) A19(-18.93,8.89) A20(-21.47,8.89) A21(-18.93,11.43) A22(-21.47,11.43) A23(-18.93,13.97) A24(-21.47,13.97) B1(18.93,13.97) B2(21.47,13.97) B3(18.93,11.43) B4(21.47,11.43) B5(18.93,8.89) B6(21.47,8.89) B7(18.93,6.35) B8(21.47,6.35) B9(18.93,3.81) B10(21.47,3.81) B11(18.93,1.27) B12(21.47,1.27) B13(18.93,-1.27) B14(21.47,-1.27) B15(18.93,-3.81) B16(21.47,-3.81) B17(18.93,-6.35) B18(21.47,-6.35) B19(18.93,-8.89) B20(21.47,-8.89) B21(18.93,-11.43) B22(21.47,-11.43) B23(18.93,-13.97) B24(21.47,-13.97)
  rrect25% 1.5x1 smd far side: A1(-17.85,-13.97) A2(-22.55,-13.97) A3(-17.85,-11.43) A4(-22.55,-11.43) A5(-17.85,-8.89) A6(-22.55,-8.89) A7(-17.85,-6.35) A8(-22.55,-6.35) A9(-17.85,-3.81) A10(-22.55,-3.81) A11(-17.85,-1.27) A12(-22.55,-1.27) A13(-17.85,1.27) A14(-22.55,1.27) A15(-17.85,3.81) A16(-22.55,3.81) A17(-17.85,6.35) A18(-22.55,6.35) A19(-17.85,8.89) A20(-22.55,8.89) A21(-17.85,11.43) A22(-22.55,11.43) A23(-17.85,13.97) A24(-22.55,13.97) B1(17.85,13.973) B2(22.55,13.973) B3(17.85,11.433) B4(22.55,11.433) B5(17.85,8.893) B6(22.55,8.893) B7(17.85,6.353) B8(22.55,6.353) B9(17.85,3.813) B10(22.55,3.813) B11(17.85,1.309) B12(22.55,1.273) B13(17.85,-1.231) B14(22.55,-1.267) B15(17.85,-3.807) B16(22.55,-3.807) B17(17.85,-6.347) B18(22.55,-6.347) B19(17.85,-8.887) B20(22.55,-8.887) B21(17.85,-11.427) B22(22.55,-11.427) B23(17.85,-13.967) B24(22.55,-13.967)
  rrect25% 1.5x1 smd: A1(-17.85,-13.97) A2(-22.55,-13.97) A3(-17.85,-11.43) A4(-22.55,-11.43) A5(-17.85,-8.89) A6(-22.55,-8.89) A7(-17.85,-6.35) A8(-22.55,-6.35) A9(-17.85,-3.81) A10(-22.55,-3.81) A11(-17.85,-1.27) A12(-22.55,-1.27) A13(-17.85,1.27) A14(-22.55,1.27) A15(-17.85,3.81) A16(-22.55,3.81) A17(-17.85,6.35) A18(-22.55,6.35) A19(-17.85,8.89) A20(-22.55,8.89) A21(-17.85,11.43) A22(-22.55,11.43) A23(-17.85,13.97) A24(-22.55,13.97) B1(17.85,13.97) B2(22.55,13.97) B3(17.85,11.43) B4(22.55,11.43) B5(17.85,8.89) B6(22.55,8.89) B7(17.85,6.35) B8(22.55,6.35) B9(17.85,3.81) B10(22.55,3.81) B11(17.85,1.27) B12(22.55,1.27) B13(17.85,-1.27) B14(22.55,-1.27) B15(17.85,-3.81) B16(22.55,-3.81) B17(17.85,-6.35) B18(22.55,-6.35) B19(17.85,-8.89) B20(22.55,-8.89) B21(17.85,-11.43) B22(22.55,-11.43) B23(17.85,-13.97) B24(22.55,-13.97)
Top Overlay:
  region: -17,-23 -16.2,-19.3 -16.2,-19.097 -16.253,-18.694 -16.358,-18.301 -16.514,-17.926 -16.717,-17.574 -16.964,-17.252 -17.252,-16.964 -17.574,-16.717 -17.926,-16.514 -18.301,-16.358 -18.694,-16.253 -19.097,-16.2 -19.3,-16.2 -23.5,-17 -23.5,-17.5 -21.7,-19.3 -20.9,-19.319 -20.891,-19.13 -20.807,-18.762 -20.639,-18.424 -20.396,-18.135 -20.093,-17.91 -19.745,-17.763 -19.373,-17.702 -18.996,-17.729 -18.636,-17.844 -18.314,-18.04 -18.046,-18.306 -17.848,-18.628 -17.731,-18.987 -17.701,-19.363 -17.761,-19.736 -17.906,-20.084 -18.128,-20.389 -18.416,-20.633 -18.753,-20.803 -19.121,-20.89 -19.309,-20.9 -19.3,-21.7 -18,-23
  lines w0.2: -22.74,-15.21 -22.74,15.27 -17.66,15.27 -17.66,-15.21 -22.74,-15.21 ; 17.66,-15.231 17.66,15.249 22.74,15.249 22.74,-15.231 17.66,-15.231
  lines w0.254: -23.5,-17.5 -21.7,-19.3 -20.9,-19.3 cw(c-19.3,-19.3) -19.3,-20.9 -19.3,-21.7 -18,-23 -11,-23 -10,-22 10,-22 11,-23 18,-23 19.3,-21.7 19.3,-20.9 cw(c19.3,-19.3) 20.9,-19.3 21.7,-19.3 23.5,-17.5 23.5,17.5 21.7,19.3 20.9,19.3 cw(c19.3,19.3) 19.3,20.9 19.3,21.7 18,23 11,23 10,22 -10,22 -11,23 -18,23 -19.3,21.7 -19.3,20.9 cw(c-19.3,19.3) -20.9,19.3 -21.7,19.3 -23.5,17.5 -23.5,-17.5
  lines w0.3: -17.63,-14.827 -16.983,-14.827 ccw(c-16.983,-14.497) -16.652,-14.497 ; -17.618,-13.1 -16.983,-13.1 cw(c-16.983,-13.43) -16.652,-13.43 ; -16.645,-14.507 -16.645,-13.44 ; 16.645,13.44 16.645,14.507 ; 16.652,13.43 ccw(c16.983,13.43) 16.983,13.1 17.618,13.1 ; 16.652,14.497 cw(c16.983,14.497) 16.983,14.827 17.63,14.827
  text "B2" at 21.673,15.544 h0.9
  text "A24" at -23.224,15.574 h0.9
  text "A23" at -18.54,15.559 h0.9
  text "A2" at -23.166,-16.41 h0.9
  text "B1" at 16.313,15.25 h0.9
  text "A1" at -17.323,-16.314 h0.9
  text "B24" at 21.036,-16.356 h0.9
  text "B23" at 16.78,-16.32 h0.9
Bottom Overlay:
  region: -17,-23 -16.2,-19.3 -16.2,-19.097 -16.253,-18.694 -16.358,-18.301 -16.514,-17.926 -16.717,-17.574 -16.964,-17.252 -17.252,-16.964 -17.574,-16.717 -17.926,-16.514 -18.301,-16.358 -18.694,-16.253 -19.097,-16.2 -19.3,-16.2 -23.5,-17 -23.5,-17.5 -21.7,-19.3 -20.9,-19.319 -20.891,-19.13 -20.807,-18.762 -20.639,-18.424 -20.396,-18.135 -20.093,-17.91 -19.745,-17.763 -19.373,-17.702 -18.996,-17.729 -18.636,-17.844 -18.314,-18.04 -18.046,-18.306 -17.848,-18.628 -17.731,-18.987 -17.701,-19.363 -17.761,-19.736 -17.906,-20.084 -18.128,-20.389 -18.416,-20.633 -18.753,-20.803 -19.121,-20.89 -19.309,-20.9 -19.3,-21.7 -18,-23
  lines w0.2: -22.74,-15.21 -22.74,15.27 -17.66,15.27 -17.66,-15.21 -22.74,-15.21 ; 17.66,-15.231 17.66,15.249 22.74,15.249 22.74,-15.231 17.66,-15.231
  lines w0.254: -23.5,-17.5 -21.7,-19.3 -20.9,-19.3 cw(c-19.3,-19.3) -19.3,-20.9 -19.3,-21.7 -18,-23 -11,-23 -10,-22 10,-22 11,-23 18,-23 19.3,-21.7 19.3,-20.9 cw(c19.3,-19.3) 20.9,-19.3 21.7,-19.3 23.5,-17.5 23.5,17.5 21.7,19.3 20.9,19.3 cw(c19.3,19.3) 19.3,20.9 19.3,21.7 18,23 11,23 10,22 -10,22 -11,23 -18,23 -19.3,21.7 -19.3,20.9 cw(c-19.3,19.3) -20.9,19.3 -21.7,19.3 -23.5,17.5 -23.5,-17.5
  lines w0.3: -17.63,-14.827 -16.983,-14.827 ccw(c-16.983,-14.497) -16.652,-14.497 ; -17.618,-13.1 -16.983,-13.1 cw(c-16.983,-13.43) -16.652,-13.43 ; -16.645,-14.507 -16.645,-13.44 ; 16.645,13.44 16.645,14.507 ; 16.652,13.43 ccw(c16.983,13.43) 16.983,13.1 17.618,13.1 ; 16.652,14.497 cw(c16.983,14.497) 16.983,14.827 17.63,14.827
  text "B24" at 23.077,-16.38 h0.9
  text "B23" at 18.94,-16.37 h0.9
  text "B2" at 23.11,15.541 h0.9
  text "A2" at -21.594,-16.41 h0.9
  text "B1" at 17.267,15.291 h0.9
  text "A1" at -16.16,-16.349 h0.9
  text "A24" at -20.852,15.63 h0.9
  text "A23" at -16.117,15.633 h0.9
Top Solder:
  drawing of 3 lines, arcs and shapes, not listed
Bottom Solder:
  drawing of 3 lines, arcs and shapes, not listed
Keep-Out Layer:
  drawing of 4 lines, arcs and shapes, not listed
Top Assembly:
  lines w0.2: -22.74,-15.214 -17.66,-15.214 -17.66,15.266 -22.74,15.266 -22.74,-15.214 ; 17.66,-15.231 17.66,15.249 22.74,15.249 22.74,-15.231 17.66,-15.231
  lines w0.3: -17.63,-14.827 -16.983,-14.827 ccw(c-16.983,-14.497) -16.652,-14.497 ; -17.618,-13.1 -16.983,-13.1 cw(c-16.983,-13.43) -16.652,-13.43 ; -16.645,-14.507 -16.645,-13.44 ; 16.645,13.44 16.645,14.507 ; 16.652,13.43 ccw(c16.983,13.43) 16.983,13.1 17.618,13.1 ; 16.652,14.497 cw(c16.983,14.497) 16.983,14.827 17.63,14.827
Bottom Assembly:
  lines w0.2: -22.74,-15.21 -17.66,-15.21 -17.66,15.27 -22.74,15.27 -22.74,-15.21 ; 17.66,-15.231 17.66,15.249 22.74,15.249 22.74,-15.231 17.66,-15.231
  lines w0.3: -17.63,-14.827 -16.983,-14.827 ccw(c-16.983,-14.497) -16.652,-14.497 ; -17.618,-13.1 -16.983,-13.1 cw(c-16.983,-13.43) -16.652,-13.43 ; -16.645,-14.507 -16.645,-13.44 ; 16.645,13.44 16.645,14.507 ; 16.652,13.43 ccw(c16.983,13.43) 16.983,13.1 17.618,13.1 ; 16.652,14.497 cw(c16.983,14.497) 16.983,14.827 17.63,14.827
Board Shape:
  lines w0.2: -23.5,-17.5 -21.7,-19.3 -20.9,-19.3 cw(c-19.3,-19.3) -19.3,-20.9 -19.3,-21.7 -18,-23 -11,-23 -10,-22 10,-22 11,-23 18,-23 19.3,-21.7 19.3,-20.9 cw(c19.3,-19.3) 20.9,-19.3 21.7,-19.3 23.5,-17.5 23.5,17.5 21.7,19.3 20.9,19.3 cw(c19.3,19.3) 19.3,20.9 19.3,21.7 18,23 11,23 10,22 -10,22 -11,23 -18,23 -19.3,21.7 -19.3,20.9 cw(c-19.3,19.3) -20.9,19.3 -21.7,19.3 -23.5,17.5 -23.5,-17.5
Dimensions:
  circle w0.152: c-19.3,-19.3 r2.75
  circle w0.152: c19.3,-19.3 r2.75
  circle w0.152: c19.3,19.3 r2.75
  circle w0.152: c-19.3,19.3 r2.75
  lines w0.152: -19.3,-19.3 19.3,19.3 ; -19.3,19.3 19.3,-19.3
3D body: height 0.1, standoff 0, extent -23.65,-16.7 -23.15,-16.1

## MiniSatConnectorNo3D_v1.0_48mm [mm]
pads (268):
  round 0.6 hole 0.3 mask+0.102: 0(-20.947,-17.657) 0(-19.303,-16.973) 0(-17.657,-17.653) 0(-17.653,-20.943) 0(-16.973,-19.297)
  round 0.6 hole 0.3: 0(-20.943,17.653) 0(-19.297,16.973) 0(-17.657,20.947) 0(-17.653,17.657) 0(-16.973,19.303) 0(16.973,19.297) 0(16.973,-19.303) 0(17.653,20.943) 0(17.653,-17.657) 0(17.657,17.653) 0(17.657,-20.947) 0(19.297,-16.973) 0(19.303,16.973) 0(20.943,-17.653) 0(20.947,17.657) A1(-17.85,-13.97) A1(-17.05,-13.97) A2(-23.35,-13.97) A2(-22.55,-13.97) A3(-17.85,-11.43) A3(-17.05,-11.43) A4(-23.35,-11.43) A4(-22.55,-11.43) A5(-17.85,-8.89) A5(-17.05,-8.89) A6(-23.35,-8.89) A6(-22.55,-8.89) A7(-17.85,-6.35) A7(-17.05,-6.35) A8(-23.35,-6.35) A8(-22.55,-6.35) A9(-17.85,-3.81) A9(-17.05,-3.81) A10(-23.35,-3.81) A10(-22.55,-3.81) A11(-17.85,-1.27) A11(-17.05,-1.27) A12(-23.35,-1.27) A12(-22.55,-1.27) A13(-17.85,1.27) A13(-17.05,1.27) A14(-23.35,1.27) A14(-22.55,1.27) A15(-17.85,3.81) A15(-17.05,3.81) A16(-23.35,3.81) A16(-22.55,3.81) A17(-17.85,6.35) A17(-17.05,6.35) A18(-23.35,6.35) A18(-22.55,6.35) A19(-17.85,8.89) A19(-17.05,8.89) A20(-23.35,8.89) A20(-22.55,8.89) A21(-17.85,11.43) A21(-17.05,11.43) A22(-23.35,11.43) A22(-22.55,11.43) A23(-17.85,14) A23(-17.05,14) A24(-23.35,13.97) A24(-22.55,13.97) B1(17.05,13.965) B1(17.85,13.956) B2(22.55,13.947) B2(23.35,13.956) B3(17.05,11.43) B3(17.85,11.43) B4(22.55,11.43) B4(23.35,11.43) B5(17.05,8.89) B5(17.85,8.89) B6(22.55,8.89) B6(23.35,8.89) B7(17.05,6.35) B7(17.85,6.35) B8(22.55,6.35) B8(23.35,6.35) B9(17.05,3.81) B9(17.85,3.81) B10(22.55,3.81) B10(23.35,3.81) B11(17.05,1.27) B11(17.85,1.27) B12(22.55,1.27) B12(23.35,1.27) B13(17.05,-1.27) B13(17.85,-1.27) B14(22.55,-1.27) B14(23.35,-1.27) B15(17.05,-3.81) B15(17.85,-3.81) B16(22.55,-3.81) B16(23.35,-3.81) B17(17.05,-6.35) B17(17.85,-6.35) B18(22.55,-6.35) B18(23.35,-6.35) B19(17.05,-8.89) B19(17.85,-8.89) B20(22.55,-8.89) B20(23.35,-8.89) B21(17.05,-11.43) B21(17.85,-11.43) B22(22.55,-11.43) B22(23.35,-11.43) B23(17.05,-13.97) B23(17.85,-13.97) B24(22.55,-13.97) B24(23.35,-13.97)
  round 0 hole 1.2 unplated: 2(-20.2,12.7) 2(-20.2,-12.7) 2(20.2,12.7) 2(20.2,-12.7)
  oval 1.5x1.3 hole 0.9: A1(-18.93,-13.97) A2(-21.47,-13.97) A3(-18.93,-11.43) A4(-21.47,-11.43) A5(-18.93,-8.89) A6(-21.47,-8.89) A7(-18.93,-6.35) A8(-21.47,-6.35) A9(-18.93,-3.81) A10(-21.47,-3.81) A11(-18.93,-1.27) A12(-21.47,-1.27) A13(-18.93,1.27) A14(-21.47,1.27) A15(-18.93,3.81) A16(-21.47,3.81) A17(-18.93,6.35) A18(-21.47,6.35) A19(-18.93,8.89) A20(-21.47,8.89) A21(-18.93,11.43) A22(-21.47,11.43) A23(-18.93,13.97) A24(-21.47,13.97) B1(18.93,13.97) B2(21.47,13.97) B3(18.93,11.43) B4(21.47,11.43) B5(18.93,8.89) B6(21.47,8.89) B7(18.93,6.35) B8(21.47,6.35) B9(18.93,3.81) B10(21.47,3.81) B11(18.93,1.27) B12(21.47,1.27) B13(18.93,-1.27) B14(21.47,-1.27) B15(18.93,-3.81) B16(21.47,-3.81) B17(18.93,-6.35) B18(21.47,-6.35) B19(18.93,-8.89) B20(21.47,-8.89) B21(18.93,-11.43) B22(21.47,-11.43) B23(18.93,-13.97) B24(21.47,-13.97)
  rrect25% 1.8x1 smd: A1(-17.55,-13.97) A2(-22.85,-13.97) A3(-17.55,-11.43) A4(-22.85,-11.43) A5(-17.55,-8.89) A6(-22.85,-8.89) A7(-17.55,-6.35) A8(-22.85,-6.35) A9(-17.55,-3.81) A10(-22.85,-3.81) A11(-17.55,-1.27) A12(-22.85,-1.27) A13(-17.55,1.27) A14(-22.85,1.27) A15(-17.55,3.81) A16(-22.85,3.81) A17(-17.55,6.35) A18(-22.85,6.35) A19(-17.55,8.89) A20(-22.85,8.89) A21(-17.55,11.43) A22(-22.85,11.43) A23(-17.55,13.97) A24(-22.85,13.97) B1(17.55,13.97) B2(22.85,13.97) B3(17.55,11.43) B4(22.85,11.43) B5(17.55,8.89) B6(22.85,8.89) B7(17.55,6.35) B8(22.85,6.35) B9(17.55,3.81) B10(22.85,3.81) B11(17.55,1.27) B12(22.85,1.27) B13(17.55,-1.27) B14(22.85,-1.27) B15(17.55,-3.81) B16(22.85,-3.81) B17(17.55,-6.35) B18(22.85,-6.35) B19(17.55,-8.89) B20(22.85,-8.89) B21(17.55,-11.43) B22(22.85,-11.43) B23(17.55,-13.97) B24(22.85,-13.97)
  rrect25% 1.7x1 smd far side: A1(-17.45,-13.97) A2(-22.95,-13.97) A3(-17.45,-11.43) A4(-22.95,-11.43) A5(-17.45,-8.89) A6(-22.95,-8.89) A7(-17.45,-6.35) A8(-22.95,-6.35) A9(-17.45,-3.81) A10(-22.95,-3.81) A11(-17.45,-1.27) A12(-22.95,-1.27) A13(-17.45,1.27) A14(-22.95,1.27) A15(-17.45,3.81) A16(-22.95,3.81) A17(-17.45,6.35) A18(-22.95,6.35) A19(-17.45,8.89) A20(-22.95,8.89) A21(-17.45,11.43) A22(-22.95,11.43) A23(-17.45,13.97) A24(-22.95,13.97) B1(17.45,13.973) B2(22.95,13.973) B3(17.45,11.433) B4(22.95,11.433) B5(17.45,8.893) B6(22.95,8.893) B7(17.45,6.353) B8(22.95,6.353) B9(17.45,3.813) B10(22.95,3.813) B11(17.45,1.309) B12(22.95,1.273) B13(17.45,-1.231) B14(22.95,-1.267) B15(17.45,-3.807) B16(22.95,-3.807) B17(17.45,-6.347) B18(22.95,-6.347) B19(17.45,-8.887) B20(22.95,-8.887) B21(17.45,-11.427) B22(22.95,-11.427) B23(17.45,-13.967) B24(22.95,-13.967)
  round 1 hole 3.2 unplated mask-0.5: NC(-19.3,-19.3) NC(-19.3,19.3) NC(19.3,-19.3) NC(19.3,19.3)
Top Overlay:
  region: -17.7,-19.3 -17.708,-19.457 -17.769,-19.764 -17.889,-20.054 -18.063,-20.315 -18.285,-20.537 -18.546,-20.711 -18.836,-20.831 -19.143,-20.892 -19.3,-20.9 -19.457,-20.892 -19.764,-20.831 -20.054,-20.711 -20.315,-20.537 -20.537,-20.315 -20.711,-20.054 -20.831,-19.765 -20.892,-19.457 -20.9,-19.3 -20.892,-19.143 -20.831,-18.836 -20.711,-18.546 -20.537,-18.285 -20.315,-18.063 -20.054,-17.889 -19.764,-17.769 -19.457,-17.708 -19.3,-17.7 -19.3,-17.6 -23.567,-17.6 -18,-22.975 -17.225,-22.975 -17.066,-19.3
  region: -17,-23 -16.2,-19.3 -16.2,-19.097 -16.253,-18.694 -16.358,-18.301 -16.514,-17.926 -16.717,-17.574 -16.964,-17.252 -17.252,-16.964 -17.574,-16.717 -17.926,-16.514 -18.301,-16.358 -18.694,-16.253 -19.097,-16.2 -19.3,-16.2 -24,-17 -23.567,-17.6 -19.3,-17.7 -19.143,-17.708 -18.836,-17.769 -18.546,-17.889 -18.285,-18.063 -18.063,-18.285 -17.889,-18.546 -17.769,-18.836 -17.708,-19.143 -17.7,-19.3 -17.5,-23
  lines w0.2: -22.74,-15.21 -22.74,15.27 -17.66,15.27 -17.66,-15.21 -22.74,-15.21 ; 17.66,-15.231 17.66,15.249 22.74,15.249 22.74,-15.231 17.66,-15.231
  lines w0.254: -24,-17 -24,17 -18,23 -11,23 -10,22 10,22 11,23 18,23 24,17 24,-17 18,-23 11,-23 10,-22 -10,-22 -11,-23 -18,-23 -24,-17
  lines w0.381: -17.653,-14.834 -16.358,-14.834 ccw(c-16.358,-14.503) -16.027,-14.503 -16.027,-13.437 ccw(c-16.358,-13.437) -16.358,-13.106 -17.628,-13.106 ; 17.628,13.145 16.358,13.145 cw(c16.358,13.476) 16.027,13.476 16.027,14.542 cw(c16.358,14.542) 16.358,14.873 17.653,14.873
  text "B2" at 23.658,15.571 h0.9
  text "A24" at -23.806,15.622 h0.9
  text "A23" at -18.54,15.559 h0.9
  text "A2" at -22.746,-16.668 h0.9
  text "B1" at 16.285,15.222 h0.9
  text "A1" at -17.323,-16.314 h0.9
  text "B24" at 21.594,-16.363 h0.9
  text "B23" at 16.813,-16.305 h0.9
Bottom Overlay:
  region: -17,-23 -16.2,-19.3 -16.2,-19.097 -16.253,-18.694 -16.358,-18.301 -16.514,-17.926 -16.717,-17.574 -16.964,-17.252 -17.252,-16.964 -17.574,-16.717 -17.926,-16.514 -18.301,-16.358 -18.694,-16.253 -19.097,-16.2 -19.3,-16.2 -24,-17 -23.567,-17.6 -19.3,-17.7 -19.143,-17.708 -18.836,-17.769 -18.546,-17.889 -18.285,-18.063 -18.063,-18.285 -17.889,-18.546 -17.769,-18.836 -17.708,-19.143 -17.7,-19.3 -17.612,-23
  region: -17.7,-19.3 -17.708,-19.457 -17.769,-19.764 -17.889,-20.054 -18.063,-20.315 -18.285,-20.537 -18.546,-20.711 -18.836,-20.831 -19.143,-20.892 -19.3,-20.9 -19.457,-20.892 -19.764,-20.831 -20.054,-20.711 -20.315,-20.537 -20.537,-20.315 -20.711,-20.054 -20.831,-19.765 -20.892,-19.457 -20.9,-19.3 -20.892,-19.143 -20.831,-18.836 -20.711,-18.546 -20.537,-18.285 -20.315,-18.063 -20.054,-17.889 -19.764,-17.769 -19.457,-17.708 -19.3,-17.7 -19.3,-17.6 -23.567,-17.6 -18,-23 -17.066,-23 -17.066,-19.3
  lines w0.2: -22.74,-15.21 -22.74,15.27 -17.66,15.27 -17.66,-15.21 -22.74,-15.21 ; 17.66,-15.231 17.66,15.249 22.74,15.249 22.74,-15.231 17.66,-15.231
  lines w0.254: -24,-17 -24,17 -18,23 -11,23 -10,22 10,22 11,23 18,23 24,17 24,-17 18,-23 11,-23 10,-22 -10,-22 -11,-23 -18,-23 -24,-17
  lines w0.381: -17.653,-14.838 -16.358,-14.838 ccw(c-16.358,-14.508) -16.027,-14.508 -16.027,-13.441 ccw(c-16.358,-13.441) -16.358,-13.111 -17.628,-13.111 ; -17.653,-14.834 -16.358,-14.834 ccw(c-16.358,-14.503) -16.027,-14.503 -16.027,-13.437 ccw(c-16.358,-13.437) -16.358,-13.106 -17.628,-13.106 ; 17.628,13.145 16.358,13.145 cw(c16.358,13.476) 16.027,13.476 16.027,14.542 cw(c16.358,14.542) 16.358,14.873 17.653,14.873
  text "B24" at 23.583,-16.365 h0.9
  text "B23" at 18.782,-16.35 h0.9
  text "B2" at 23.671,16.896 h0.9
  text "A2" at -22.752,-15.199 h0.9
  text "B1" at 17.295,15.263 h0.9
  text "A1" at -16.16,-16.349 h0.9
  text "A24" at -21.329,15.611 h0.9
  text "A23" at -16.117,15.633 h0.9
Top Solder:
  drawing of 3 lines, arcs and shapes, not listed
Bottom Solder:
  drawing of 3 lines, arcs and shapes, not listed
Keep-Out Layer:
  drawing of 4 lines, arcs and shapes, not listed
Top Assembly:
  lines w0.2: -22.74,-15.214 -17.66,-15.214 -17.66,15.266 -22.74,15.266 -22.74,-15.214 ; 17.66,-15.231 17.66,15.249 22.74,15.249 22.74,-15.231 17.66,-15.231
  lines w0.381: -17.653,-14.834 -16.358,-14.834 ccw(c-16.358,-14.503) -16.027,-14.503 -16.027,-13.437 ccw(c-16.358,-13.437) -16.358,-13.106 -17.628,-13.106 ; 17.628,13.145 16.358,13.145 cw(c16.358,13.476) 16.027,13.476 16.027,14.542 cw(c16.358,14.542) 16.358,14.873 17.653,14.873
Bottom Assembly:
  lines w0.2: -22.74,-15.21 -17.66,-15.21 -17.66,15.27 -22.74,15.27 -22.74,-15.21 ; 17.66,-15.231 17.66,15.249 22.74,15.249 22.74,-15.231 17.66,-15.231
  lines w0.381: -17.653,-14.834 -16.358,-14.834 ccw(c-16.358,-14.503) -16.027,-14.503 -16.027,-13.437 ccw(c-16.358,-13.437) -16.358,-13.106 -17.628,-13.106 ; 17.628,13.145 16.358,13.145 cw(c16.358,13.476) 16.027,13.476 16.027,14.542 cw(c16.358,14.542) 16.358,14.873 17.653,14.873
Board Shape:
  lines w0.254: -24,-17 -24,17 -18,23 -11,23 -10,22 10,22 11,23 18,23 24,17 24,-17 18,-23 11,-23 10,-22 -10,-22 -11,-23 -18,-23 -24,-17
Dimensions:
  circle w0.152: c-19.3,-19.3 r2.75
  circle w0.152: c19.3,-19.3 r2.75
  circle w0.152: c19.3,19.3 r2.75
  circle w0.152: c-19.3,19.3 r2.75
  lines w0.152: -19.3,-19.3 19.3,19.3 ; -19.3,19.3 19.3,-19.3
3D body: height 0.1, standoff 0, extent -23.65,-16.7 -23.15,-16.1